# EAGLE library part SMR6-3W (library hv_inductor)
TRANSFORMER SMD toroidal-core transformer with 3 windings
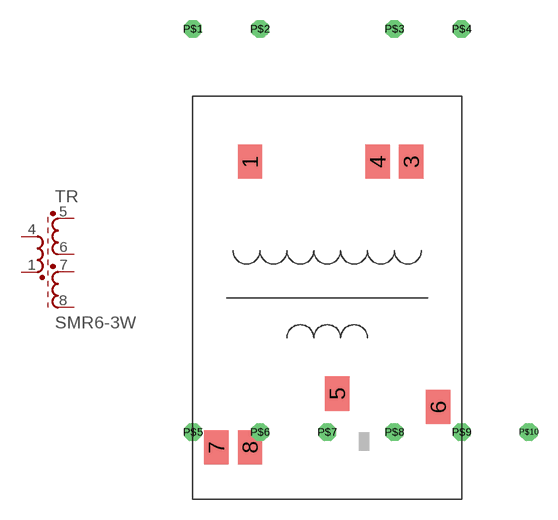
[diagram p0: symbol with the pads of SM-R6; footprint SM-R6]

Designator prefix TR

## SMR6-3W (OC_FARNELL: unknown; OC_NEWARK: unknown)  [SM-R6]
1  1  pas
4  4  pas
5  5  pas
6  6  pas
7  7  pas
8  8  pas

## Footprint SM-R6 (pad centres in mm)
THT TRANSFORMER 30.0 mm x 20.0 mm
smd 1.8 x 2.55: 1 -5.75,10.125; 3 6.25,10.125; 4 3.75,10.125; 5 0.75,-7.125; 6 8.25,-8.125; 7 -8.25,-11.125; 8 -5.75,-11.125
drill 0.8 octagon: P$1 -10,20; P$2 -5,20; P$3 5,20; P$4 10,20; P$5 -10,-10; P$6 -5,-10; P$7 0,-10; P$8 5,-10; P$9 10,-10; P$10 15,-10